# Altium footprint library LED Footprints.PcbLib: 8 footprints
Each footprint in its own frame and in the unit in brackets; x right, y up, seen from the top. Pads: shape width x height; smd on the part's side, far side on the other; paste and mask are expansions set on the pad; w line width, h text height; cw(c..) or ccw(c..) is an arc to the next point about the centre after c.
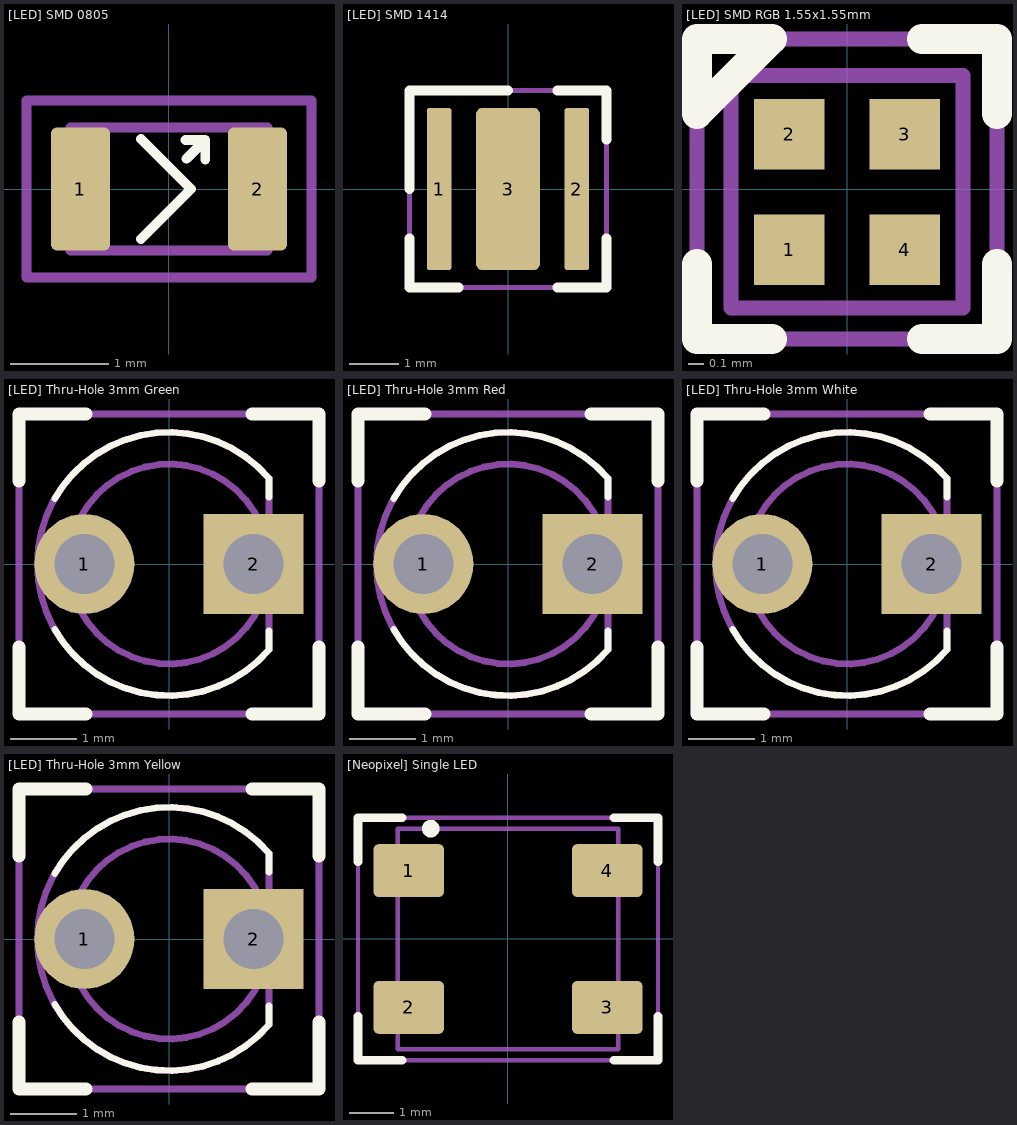
[diagram p0: the footprints below, top view; thin cyan lines are the x and y axes]

## [LED] SMD 0805 [mm]
pads (2):
  rrect20% 0.6x1.25 smd: 1(-0.9,0) 2(0.9,0)
Top Overlay:
  lines w0.1: -0.284,-0.508 0.224,0 -0.284,0.508 ; 0.168,0.498 0.368,0.498 ; 0.178,0.308 0.368,0.498 ; 0.368,0.298 0.368,0.498
Physical Outline:
  lines w0.1: -1,-0.625 1,-0.625 1,0.625 -1,0.625 -1,-0.625
Part Border:
  lines w0.1: -1.45,-0.9 -1.45,0.9 1.45,0.9 1.45,-0.9 -1.45,-0.9
3D body "[LED] SMD 0805.step": height 0.8, standoff 0, extent -1,-0.65 1,0.65

## [LED] SMD 1414 [mm]
pads (3):
  rrect20% 0.5x3.3 smd: 1(-1.4,0) 2(1.4,0)
  rrect20% 1.3x3.3 smd: 3(0,0)
Top Overlay:
  lines w0.2: -2,-1 -2,-2 -1,-2 ; -2,0 -2,2 0,2 ; 1,-2 2,-2 2,-1 ; 1,2 2,2 2,1 ; -1,2 -1,2
Part Border:
  lines w0.1: -2,-2 2,-2 2,2 -2,2 -2,-2
3D body "[LED] SMD 1414.stp": height 2.64, standoff 0.64, extent -1.725,-1.725 1.725,1.725

## [LED] SMD RGB 1.55x1.55mm [mm] "LTST-E143EGBW-P1"
pads (4):
  rect 0.47x0.47 smd: 1(-0.385,-0.405) 2(-0.385,0.365) 3(0.385,0.365) 4(0.385,-0.405)
Top Overlay:
  lines w0.2: -1,-0.5 -1,-1 -0.5,-1 ; 0.5,-1 1,-1 1,-0.5 ; 0.5,1 1,1 1,0.5 ; -1,0.5 -0.5,1 -1,1 -1,0.5
Physical Outline:
  lines w0.1: -0.775,-0.795 0.775,-0.795 0.775,0.755 -0.775,0.755 -0.775,-0.795
Part Border:
  lines w0.1: -1,-1 1,-1 1,1 -1,1 -1,-1
3D body "LTST-E143EGBW-P1.stp": height 0.27, standoff -0.28, extent -0.775,-0.775 0.775,0.775

## [LED] Thru-Hole 3mm Green [mm]
pads (2):
  round 1.5 hole 0.9: 1(-1.27,0)
  rect 1.5x1.5 hole 0.9: 2(1.27,0)
Top Overlay:
  lines w0.1: -1.715,-0.98 ccw(c0,0) 1.5,-1.285 ; -1.715,0.98 cw(c0,0) 1.5,1.285 1.5,1 ; 1.5,-1.285 1.5,-1
  lines w0.2: -2.25,-1.25 -2.25,-2.25 -1.25,-2.25 ; -2.25,1.25 -2.25,2.25 -1.25,2.25 ; 1.25,-2.25 2.25,-2.25 2.25,-1.25 ; 1.25,2.25 2.25,2.25 2.25,1.25
Physical Outline:
  circle w0.1: c0,0 r1.5
  lines w0.1: 1.5,-1.285 cw(c0,0) 1.5,1.285 1.5,-1.285
Part Border:
  lines w0.1: -2.25,-2.25 2.25,-2.25 2.25,2.25 -2.25,2.25 -2.25,-2.25
3D body "LED 3mm Green.step": height 5.6, standoff -7, extent -1.895,-1.924 1.68,1.924

## [LED] Thru-Hole 3mm Red [mm]
pads (2):
  round 1.5 hole 0.9: 1(-1.27,0)
  rect 1.5x1.5 hole 0.9: 2(1.27,0)
Top Overlay:
  lines w0.1: -1.715,-0.98 ccw(c0,0) 1.5,-1.285 ; -1.715,0.98 cw(c0,0) 1.5,1.285 1.5,1 ; 1.5,-1.285 1.5,-1
  lines w0.2: -2.25,-1.25 -2.25,-2.25 -1.25,-2.25 ; -2.25,1.25 -2.25,2.25 -1.25,2.25 ; 1.25,-2.25 2.25,-2.25 2.25,-1.25 ; 1.25,2.25 2.25,2.25 2.25,1.25
Physical Outline:
  circle w0.1: c0,0 r1.5
  lines w0.1: 1.5,-1.285 cw(c0,0) 1.5,1.285 1.5,-1.285
Part Border:
  lines w0.1: -2.25,-2.25 -2.25,2.25 2.25,2.25 2.25,-2.25 -2.25,-2.25
3D body "LED 3mm Red.step": height 5.6, standoff -7, extent -1.883,-1.915 1.68,1.915

## [LED] Thru-Hole 3mm White [mm]
pads (2):
  round 1.5 hole 0.9: 1(-1.27,0)
  rect 1.5x1.5 hole 0.9: 2(1.27,0)
Top Overlay:
  lines w0.1: -1.715,-0.98 ccw(c0,0) 1.5,-1.285 ; -1.715,0.98 cw(c0,0) 1.5,1.285 1.5,1 ; 1.5,-1.285 1.5,-1
  lines w0.2: -2.25,-1.25 -2.25,-2.25 -1.25,-2.25 ; -2.25,1.25 -2.25,2.25 -1.25,2.25 ; 1.25,-2.25 2.25,-2.25 2.25,-1.25 ; 1.25,2.25 2.25,2.25 2.25,1.25
Physical Outline:
  circle w0.1: c0,0 r1.5
  lines w0.1: 1.5,-1.285 cw(c0,0) 1.5,1.285 1.5,-1.285
Part Border:
  lines w0.1: -2.25,-2.25 -2.25,2.25 2.25,2.25 2.25,-2.25 -2.25,-2.25
3D body "LED 3mm White.step": height 5.6, standoff -7, extent -1.883,-1.915 1.68,1.915

## [LED] Thru-Hole 3mm Yellow [mm]
pads (2):
  round 1.5 hole 0.9: 1(-1.27,0)
  rect 1.5x1.5 hole 0.9: 2(1.27,0)
Top Overlay:
  lines w0.1: -1.715,-0.98 ccw(c0,0) 1.5,-1.285 ; -1.715,0.98 cw(c0,0) 1.5,1.285 1.5,1 ; 1.5,-1.285 1.5,-1
  lines w0.2: -2.25,-1.25 -2.25,-2.25 -1.25,-2.25 ; -2.25,1.25 -2.25,2.25 -1.25,2.25 ; 1.25,-2.25 2.25,-2.25 2.25,-1.25 ; 1.25,2.25 2.25,2.25 2.25,1.25
Physical Outline:
  circle w0.1: c0,0 r1.5
  lines w0.1: 1.5,-1.285 cw(c0,0) 1.5,1.285 1.5,-1.285
Part Border:
  lines w0.1: -2.25,-2.25 -2.25,2.25 2.25,2.25 2.25,-2.25 -2.25,-2.25
3D body "LED 3mm Yellow.step": height 5.6, standoff -7, extent -1.883,-1.915 1.68,1.915

## [Neopixel] Single LED [mm] "WS2812B"
pads (4):
  rrect20% 1.6x1.2 smd: 1(-2.25,1.55) 2(-2.25,-1.55) 3(2.25,-1.55) 4(2.25,1.55)
Top Overlay:
  circle w0.2: c-1.75,2.5 r0.1
  lines w0.2: -3.4,-1.75 -3.4,-2.75 -2.4,-2.75 ; -3.4,1.75 -3.4,2.75 -2.4,2.75 ; 2.4,-2.75 3.4,-2.75 3.4,-1.75 ; 2.4,2.75 3.4,2.75 3.4,1.75
Physical Outline:
  lines w0.1: -2.7,-2.1 -2.7,-1.2 -1.8,-1.2 -1.8,-2.1 -2.7,-2.1 ; -2.7,1.2 -1.8,1.2 -1.8,2.1 -2.7,2.1 -2.7,1.2 ; -2.5,-2.5 -2.5,2.5 2.5,2.5 2.5,-2.5 -2.5,-2.5 ; 1.8,-2.1 1.8,-1.2 2.7,-1.2 2.7,-2.1 1.8,-2.1 ; 1.8,1.2 2.7,1.2 2.7,2.1 1.8,2.1 1.8,1.2
Part Border:
  lines w0.1: -3.4,-2.75 3.4,-2.75 3.4,2.75 -3.4,2.75 -3.4,-2.75
3D body "[Neopixel] Single LED.STEP": height 1.7, standoff 0, extent -2.675,-2.475 2.675,2.475